# Altium footprint library Linux-Capable-Business-Card.PcbLib: 18 footprints (part 1 of 2)
Each footprint in its own frame and in the unit in brackets; x right, y up, seen from the top. Pads: shape width x height; smd on the part's side, far side on the other; paste and mask are expansions set on the pad; w line width, h text height; cw(c..) or ccw(c..) is an arc to the next point about the centre after c.
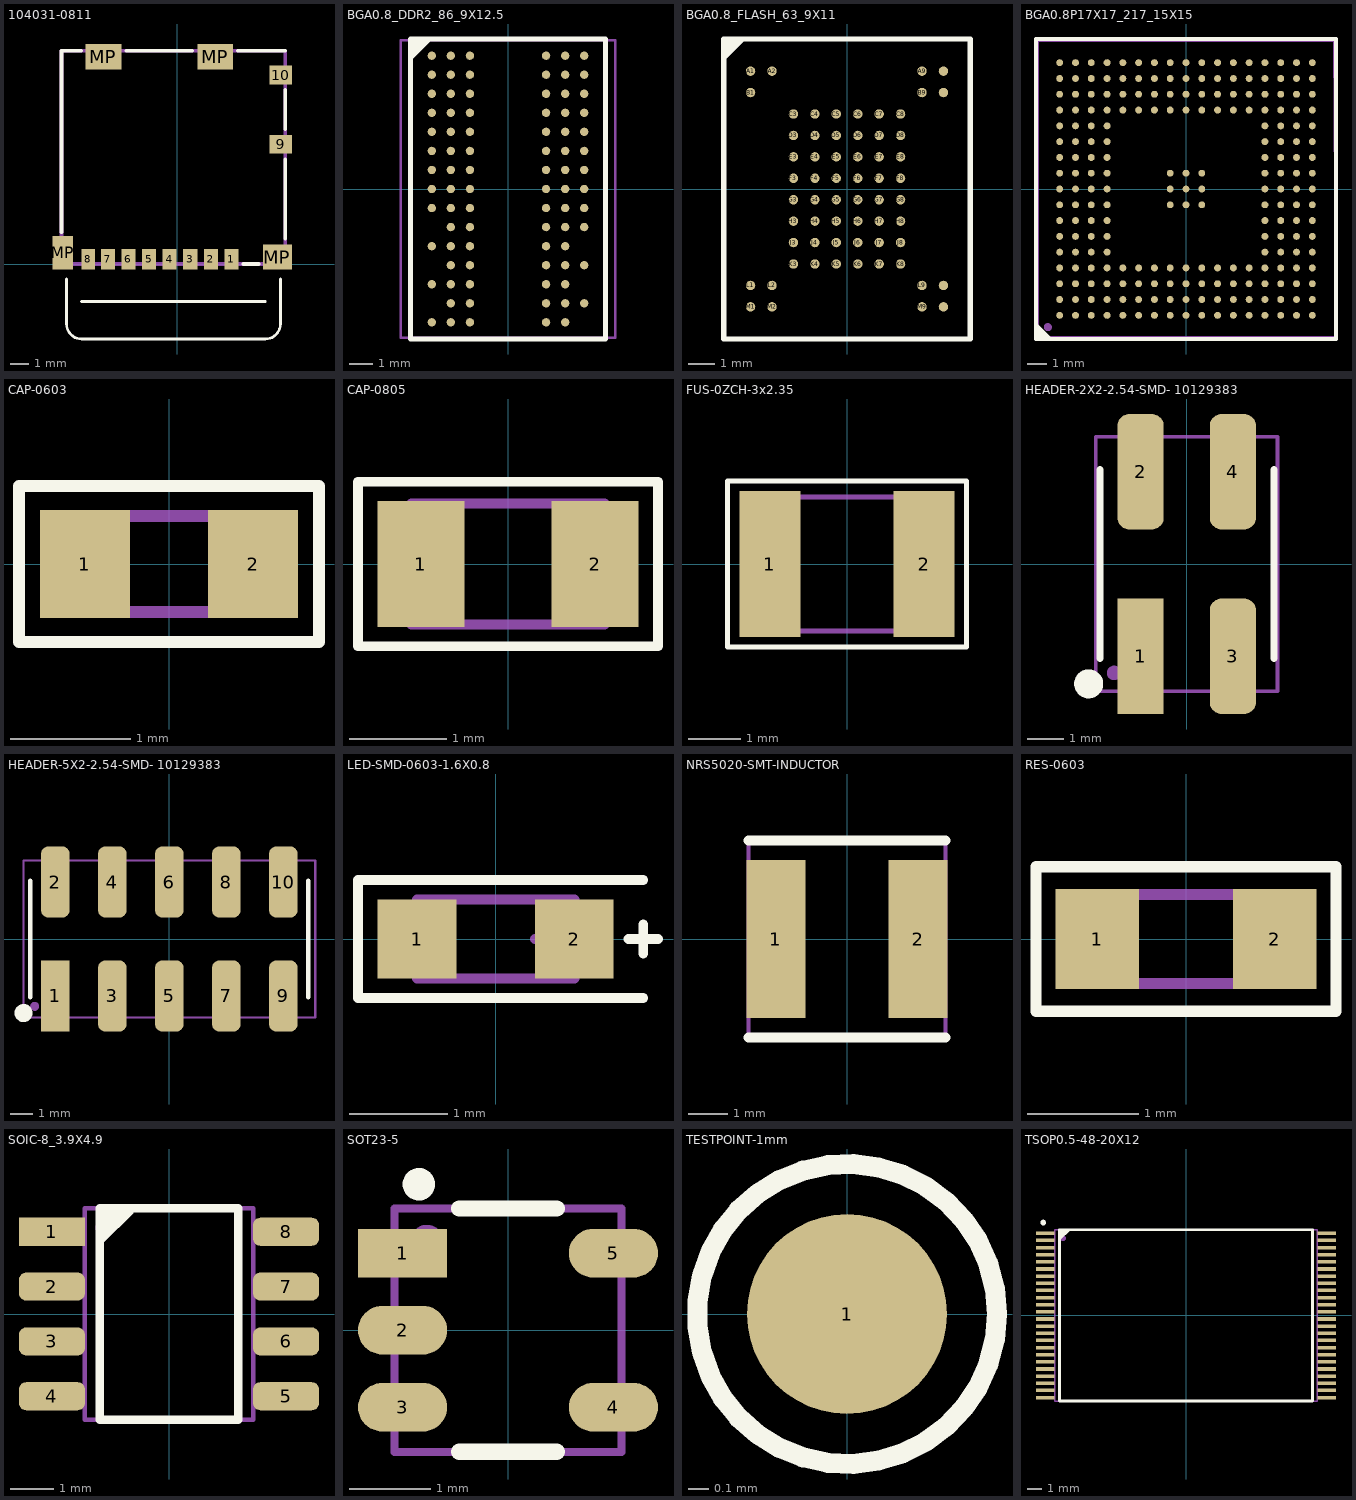
[diagram p0: the footprints below, top view; thin cyan lines are the x and y axes]

## 104031-0811 [mm] "Memory Card Connectors MICRO SD PUSH-PULL SMT 1.42MM HEIGHT"
height 1.42
pads (14):
  rect 0.75x1.1 smd: 1(2.905,0.25) 2(1.805,0.25) 3(0.705,0.25) 4(-0.395,0.25) 5(-1.495,0.25) 6(-2.595,0.25) 7(-3.695,0.25)
  rect 0.7x1.1 smd: 8(-4.745,0.25)
  rect 1.2x1 smd: 9(5.54,6.4) 10(5.54,10.1)
  rect 1.1x1.8 smd: MP(-6.1,0.6)
  rect 1.9x1.35 smd: MP(-3.93,11.075) MP(2.04,11.075)
  rect 1.55x1.35 smd: MP(5.365,0.375)
Top Overlay:
  lines w0.15: -5.9,-0.8 -5.9,-3.2 ccw(c-5.1,-3.2) -5.1,-4 4.719,-4 ccw(c4.719,-3.2) 5.519,-3.2 5.519,-0.8 ; -5.109,-2 4.709,-2
  lines w0.2: -6.175,1.721 -6.175,11.4 -5.114,11.4 ; -2.7,11.4 0.8,11.4 ; 3.255,11.4 5.775,11.4 ; 3.539,0 4.36,0 ; 5.775,1.367 5.775,5.601 ; 5.775,7.216 5.775,9.297
Top Assembly:
  lines w0.2: -6.175,0 -6.175,11.4 5.775,11.4 5.775,0 -6.175,0
  text ".Designator" at -2.5,5.667 h0.5
3D body "104031-0811.stp": height 1.44, standoff -0.01, extent -6.205,0 5.745,11.4

## BGA0.8_DDR2_86_9X12.5 [mm]
height 1.2
pads (84):
  round 0.35 smd: A1(-3.2,5.6) A2(-2.4,5.6) A3(-1.6,5.6) A7(1.6,5.6) A8(2.4,5.6) A9(3.2,5.6) B1(-3.2,4.8) B2(-2.4,4.8) B3(-1.6,4.8) B7(1.6,4.8) B8(2.4,4.8) B9(3.2,4.8) C1(-3.2,4) C2(-2.4,4) C3(-1.6,4) C7(1.6,4) C8(2.4,4) C9(3.2,4) D1(-3.2,3.2) D2(-2.4,3.2) D3(-1.6,3.2) D7(1.6,3.2) D8(2.4,3.2) D9(3.2,3.2) E1(-3.2,2.4) E2(-2.4,2.4) E3(-1.6,2.4) E7(1.6,2.4) E8(2.4,2.4) E9(3.2,2.4) F1(-3.2,1.6) F2(-2.4,1.6) F3(-1.6,1.6) F7(1.6,1.6) F8(2.4,1.6) F9(3.2,1.6) G1(-3.2,0.8) G2(-2.4,0.8) G3(-1.6,0.8) G7(1.6,0.8) G8(2.4,0.8) G9(3.2,0.8) H1(-3.2,0) H2(-2.4,0) H3(-1.6,0) H7(1.6,0) H8(2.4,0) H9(3.2,0) J1(-3.2,-0.8) J2(-2.4,-0.8) J3(-1.6,-0.8) J7(1.6,-0.8) J8(2.4,-0.8) J9(3.2,-0.8) K2(-2.4,-1.6) K3(-1.6,-1.6) K7(1.6,-1.6) K8(2.4,-1.6) K9(3.2,-1.6) L1(-3.2,-2.4) L2(-2.4,-2.4) L3(-1.6,-2.4) L7(1.6,-2.4) L8(2.4,-2.4) M2(-2.4,-3.2) M3(-1.6,-3.2) M7(1.6,-3.2) M8(2.4,-3.2) M9(3.2,-3.2) N1(-3.2,-4) N2(-2.4,-4) N3(-1.6,-4) N7(1.6,-4) N8(2.4,-4) P2(-2.4,-4.8) P3(-1.6,-4.8) P7(1.6,-4.8) P8(2.4,-4.8) P9(3.2,-4.8) R1(-3.2,-5.6) R2(-2.4,-5.6) R3(-1.6,-5.6) R7(1.6,-5.6) R8(2.4,-5.6)
Top Overlay:
  region: -3.3,6.3 -4.1,5.5 -4.1,6.3
  lines w0.2: -4.1,-6.3 4.1,-6.3 ; -4.1,-6.25 -4.1,5.5 ; -3.2,6.3 -4.1,6.3 ; 4.1,-6.25 4.1,6.25 ; 4.1,6.3 -3.3,6.3 ; -4.1,5.5 -3.3,6.3 ; -4.1,5.5 -4.1,6.3 ; -4.1,6.3 -3.3,6.3
Top Assembly:
  circle w0.2: c-4,5.8 r0.1
  lines w0.1: -4.5,-6.25 4.5,-6.25 4.5,6.25 -4.5,6.25 -4.5,-6.25
  text ".Designator" at -2.5,-0.133 h0.5
3D body "MT47H128M16RT-25E_C.stp": height 1.2, standoff 0, extent -4.5,-6.25 4.5,6.25

## BGA0.8_FLASH_63_9X11 [mm]
pads (63):
  round 0.35 smd: A1(-3.6,4.4) A2(-2.8,4.4) A9(2.8,4.4) A10(3.6,4.4) B1(-3.6,3.6) B9(2.8,3.6) B10(3.6,3.6) C3(-2,2.8) C4(-1.2,2.8) C5(-0.4,2.8) C6(0.4,2.8) C7(1.2,2.8) C8(2,2.8) D3(-2,2) D4(-1.2,2) D5(-0.4,2) D6(0.4,2) D7(1.2,2) D8(2,2) E3(-2,1.2) E4(-1.2,1.2) E5(-0.4,1.2) E6(0.4,1.2) E7(1.2,1.2) E8(2,1.2) F3(-2,0.4) F4(-1.2,0.4) F5(-0.4,0.4) F6(0.4,0.4) F7(1.2,0.4) F8(2,0.4) G3(-2,-0.4) G4(-1.2,-0.4) G5(-0.4,-0.4) G6(0.4,-0.4) G7(1.2,-0.4) G8(2,-0.4) H3(-2,-1.2) H4(-1.2,-1.2) H5(-0.4,-1.2) H6(0.4,-1.2) H7(1.2,-1.2) H8(2,-1.2) J3(-2,-2) J4(-1.2,-2) J5(-0.4,-2) J6(0.4,-2) J7(1.2,-2) J8(2,-2) K3(-2,-2.8) K4(-1.2,-2.8) K5(-0.4,-2.8) K6(0.4,-2.8) K7(1.2,-2.8) K8(2,-2.8) L1(-3.6,-3.6) L2(-2.8,-3.6) L9(2.8,-3.6) L10(3.6,-3.6) M1(-3.6,-4.4) M2(-2.8,-4.4) M9(2.8,-4.4) M10(3.6,-4.4)
Top Overlay:
  region: -3.9,5.6 -4.6,4.9 -4.6,5.6
  lines w0.2: -4.6,5.1 -4.6,-5.6 4.6,-5.6 4.6,5.6 -4.1,5.6 ; -4.6,5.6 -4.6,5.6 ; -4.6,5.6 -3.9,5.6 -4.6,4.9 -4.6,5.6
3D body "MT29F1G08ABAEAH4_E_TR.stp": height 1, standoff 0, extent -4.5,-5.5 4.5,5.5

## BGA0.8P17X17_217_15X15 [mm]
height 1.4
pads (217):
  round 0.35 smd mask+0.06: A1(-6.4,-6.4) A2(-6.4,-5.6) A3(-6.4,-4.8) A4(-6.4,-4) A5(-6.4,-3.2) A6(-6.4,-2.4) A7(-6.4,-1.6) A8(-6.4,-0.8) A9(-6.4,0) A10(-6.4,0.8) A11(-6.4,1.6) A12(-6.4,2.4) A13(-6.4,3.2) A14(-6.4,4) A15(-6.4,4.8) A16(-6.4,5.6) A17(-6.4,6.4) B1(-5.6,-6.4) B2(-5.6,-5.6) B3(-5.6,-4.8) B4(-5.6,-4) B5(-5.6,-3.2) B6(-5.6,-2.4) B7(-5.6,-1.6) B8(-5.6,-0.8) B9(-5.6,0) B10(-5.6,0.8) B11(-5.6,1.6) B12(-5.6,2.4) B13(-5.6,3.2) B14(-5.6,4) B15(-5.6,4.8) B16(-5.6,5.6) B17(-5.6,6.4) C1(-4.8,-6.4) C2(-4.8,-5.6) C3(-4.8,-4.8) C4(-4.8,-4) C5(-4.8,-3.2) C6(-4.8,-2.4) C7(-4.8,-1.6) C8(-4.8,-0.8) C9(-4.8,0) C10(-4.8,0.8) C11(-4.8,1.6) C12(-4.8,2.4) C13(-4.8,3.2) C14(-4.8,4) C15(-4.8,4.8) C16(-4.8,5.6) C17(-4.8,6.4) D1(-4,-6.4) D2(-4,-5.6) D3(-4,-4.8) D4(-4,-4) D5(-4,-3.2) D6(-4,-2.4) D7(-4,-1.6) D8(-4,-0.8) D9(-4,0) D10(-4,0.8) D11(-4,1.6) D12(-4,2.4) D13(-4,3.2) D14(-4,4) D15(-4,4.8) D16(-4,5.6) D17(-4,6.4) E1(-3.2,-6.4) E2(-3.2,-5.6) E3(-3.2,-4.8) E4(-3.2,-4) E14(-3.2,4) E15(-3.2,4.8) E16(-3.2,5.6) E17(-3.2,6.4) F1(-2.4,-6.4) F2(-2.4,-5.6) F3(-2.4,-4.8) F4(-2.4,-4) F14(-2.4,4) F15(-2.4,4.8) F16(-2.4,5.6) F17(-2.4,6.4) G1(-1.6,-6.4) G2(-1.6,-5.6) G3(-1.6,-4.8) G4(-1.6,-4) G14(-1.6,4) G15(-1.6,4.8) G16(-1.6,5.6) G17(-1.6,6.4) H1(-0.8,-6.4) H2(-0.8,-5.6) H3(-0.8,-4.8) H4(-0.8,-4) H8(-0.8,-0.8) H9(-0.8,0) H10(-0.8,0.8) H14(-0.8,4) H15(-0.8,4.8) H16(-0.8,5.6) H17(-0.8,6.4) J1(0,-6.4) J2(0,-5.6) J3(0,-4.8) J4(0,-4) J8(0,-0.8) J9(0,0) J10(0,0.8) J14(0,4) J15(0,4.8) J16(0,5.6) J17(0,6.4) K1(0.8,-6.4) K2(0.8,-5.6) K3(0.8,-4.8) K4(0.8,-4) K8(0.8,-0.8) K9(0.8,0) K10(0.8,0.8) K14(0.8,4) K15(0.8,4.8) K16(0.8,5.6) K17(0.8,6.4) L1(1.6,-6.4) L2(1.6,-5.6) L3(1.6,-4.8) L4(1.6,-4) L14(1.6,4) L15(1.6,4.8) L16(1.6,5.6) L17(1.6,6.4) M1(2.4,-6.4) M2(2.4,-5.6) M3(2.4,-4.8) M4(2.4,-4) M14(2.4,4) M15(2.4,4.8) M16(2.4,5.6) M17(2.4,6.4) N1(3.2,-6.4) N2(3.2,-5.6) N3(3.2,-4.8) N4(3.2,-4) N14(3.2,4) N15(3.2,4.8) N16(3.2,5.6) N17(3.2,6.4) P1(4,-6.4) P2(4,-5.6) P3(4,-4.8) P4(4,-4) P5(4,-3.2) P6(4,-2.4) P7(4,-1.6) P8(4,-0.8) P9(4,0) P10(4,0.8) P11(4,1.6) P12(4,2.4) P13(4,3.2) P14(4,4) P15(4,4.8) P16(4,5.6) P17(4,6.4) R1(4.8,-6.4) R2(4.8,-5.6) R3(4.8,-4.8) R4(4.8,-4) R5(4.8,-3.2) R6(4.8,-2.4) R7(4.8,-1.6) R8(4.8,-0.8) R9(4.8,0) R10(4.8,0.8) R11(4.8,1.6) R12(4.8,2.4) R13(4.8,3.2) R14(4.8,4) R15(4.8,4.8) R16(4.8,5.6) R17(4.8,6.4) T1(5.6,-6.4) T2(5.6,-5.6) T3(5.6,-4.8) T4(5.6,-4) T5(5.6,-3.2) T6(5.6,-2.4) T7(5.6,-1.6) T8(5.6,-0.8) T9(5.6,0) T10(5.6,0.8) T11(5.6,1.6) T12(5.6,2.4) T13(5.6,3.2) T14(5.6,4) T15(5.6,4.8) T16(5.6,5.6) T17(5.6,6.4) U1(6.4,-6.4) U2(6.4,-5.6) U3(6.4,-4.8) U4(6.4,-4) U5(6.4,-3.2) U6(6.4,-2.4) U7(6.4,-1.6) U8(6.4,-0.8) U9(6.4,0) U10(6.4,0.8) U11(6.4,1.6) U12(6.4,2.4) U13(6.4,3.2) U14(6.4,4) U15(6.4,4.8) U16(6.4,5.6) U17(6.4,6.4)
Top Overlay:
  region: -7.6,-6.9 -6.9,-7.6 -7.6,-7.6
  lines w0.2: -7.6,-6.9 -7.6,-7.6 -6.9,-7.6 ; -7.6,-6.9 -7.6,7.6 7.6,7.6 7.6,-7.6 -6.9,-7.6 ; -7.6,-6.9 -6.9,-7.6
Top Assembly:
  circle w0.2: c-7,-7 r0.1
  lines w0.1: -7.5,-7.5 -7.5,7.5 7.5,7.5 7.6,-7.5 -7.5,-7.5
  text ".Designator" at -2.5,-0.133 h0.5
3D body: height 0.86, standoff 0.12, extent -7.5,-7.5 7.5,7.5

## CAP-0603 [mm]
height 0.8
pads (2):
  rect 0.75x0.9 smd: 1(-0.7,0) 2(0.7,0)
Top Overlay:
  lines w0.1: -1.25,-0.65 -1.25,0.65 1.25,0.65 1.25,-0.65 -1.25,-0.65
Top Assembly:
  lines w0.1: -0.8,-0.4 0.8,-0.4 0.8,0.4 -0.8,0.4 -0.8,-0.4
  text ".Designator" at -2.5,-0.133 h0.5
3D body "C0603C104M4RAC.stp": height 0.95, standoff 0, extent -0.8,-0.4 0.8,0.4

## CAP-0805 [mm]
height 1.25
pads (2):
  rect 0.9x1.3 smd: 1(-0.9,0) 2(0.9,0)
Top Overlay:
  lines w0.1: -1.55,-0.85 1.55,-0.85 1.55,0.85 -1.55,0.85 -1.55,-0.85
Top Assembly:
  lines w0.1: -1,-0.625 1,-0.625 1,0.625 -1,0.625 -1,-0.625
  text ".Designator" at -2.5,-0.133 h0.5
3D body "885012107013.stp": height 1.35, standoff 0, extent -1,-0.625 1,0.625

## FUS-0ZCH-3x2.35 [mm]
height 0.75
pads (2):
  rect 1.18x2.81 smd: 1(-1.485,0) 2(1.485,0)
Top Overlay:
  lines w0.1: -2.3,-1.6 2.3,-1.6 2.3,1.6 -2.3,1.6 -2.3,-1.6
Top Assembly:
  lines w0.1: -1.608,-1.288 1.608,-1.288 1.608,1.288 -1.608,1.288 -1.608,-1.288
  text ".Designator" at -2.5,-0.133 h0.5
3D body "0ZCH0050FF2G.stp": height 0.75, standoff 0, extent -1.607,-1.288 1.607,1.288

## HEADER-2X2-2.54-SMD- 10129383 [mm]
pads (4):
  rect 1.27x3.18 smd: 1(-1.27,-2.54)
  rrect50% 1.27x3.18 smd: 2(-1.27,2.54) 3(1.27,-2.54) 4(1.27,2.54)
Top Overlay:
  circle w0.4: c-2.7,-3.3 r0.2
  lines w0.2: -2.39,-2.6 -2.39,2.6 ; 2.4,-2.6 2.4,2.6
Top Assembly:
  circle w0.2: c-2,-3 r0.1
  lines w0.1: -2.5,-3.5 2.5,-3.5 2.5,3.5 -2.5,3.5 -2.5,-3.5
  text ".Designator" at -2.5,-0.133 h0.5

## HEADER-5X2-2.54-SMD- 10129383 [mm]
pads (10):
  rect 1.27x3.18 smd: 1(-5.08,-2.54)
  rrect50% 1.27x3.18 smd: 2(-5.08,2.54) 3(-2.54,-2.54) 4(-2.54,2.54) 5(0,-2.54) 6(0,2.54) 7(2.54,-2.54) 8(2.54,2.54) 9(5.08,-2.54) 10(5.08,2.54)
Top Overlay:
  circle w0.4: c-6.5,-3.3 r0.2
  lines w0.2: -6.2,-2.6 -6.2,2.6 ; 6.2,-2.6 6.2,2.6
Top Assembly:
  circle w0.2: c-6,-3 r0.1
  lines w0.1: -6.5,-3.5 6.5,-3.5 6.5,3.5 -6.5,3.5 -6.5,-3.5
  text ".Designator" at -2.5,-0.133 h0.5

## LED-SMD-0603-1.6X0.8 [mm]
height 0.7
pads (2):
  rect 0.8x0.8 smd: 1(-0.8,0) 2(0.8,0)
Top Overlay:
  lines w0.1: 1.35,0 1.65,0 ; 1.5,-0.6 -1.4,-0.6 -1.4,0.6 1.5,0.6 ; 1.5,-0.15 1.5,0.15
Top Assembly:
  lines w0.1: 0.4,0 0.6,0 ; 0.5,-0.1 0.5,0.1 ; -0.8,-0.4 -0.8,0.4 0.8,0.4 0.8,-0.4 -0.8,-0.4
  text ".Designator" at -2.5,-0.133 h0.5
3D body "150060VS75000.stp": height 0.7, standoff 0, extent -0.83,-0.4 0.77,0.4

## NRS5020-SMT-INDUCTOR [mm]
height 2
pads (2):
  rect 1.5x4 smd: 1(-1.8,0) 2(1.8,0)
Top Overlay:
  lines w0.254: -2.5,-2.5 2.5,-2.5 ; -2.5,2.5 2.5,2.5
Top Assembly:
  lines w0.1: -2.5,-2.5 -2.5,2.5 2.5,2.5 2.5,-2.5 -2.5,-2.5
  text ".Designator" at -2.5,-0.133 h0.5
3D body: height 2, standoff 0, extent -2.5,-2.5 2.5,2.5
3D body: height 0.25, standoff 0, extent 0,0 0,0

## RES-0603 [mm]
height 0.45
pads (2):
  rect 0.75x0.9 smd: 1(-0.8,0) 2(0.8,0)
Top Overlay:
  lines w0.1: -1.35,-0.65 1.35,-0.65 1.35,0.65 -1.35,0.65 -1.35,-0.65
Top Assembly:
  lines w0.1: -0.8,-0.4 0.8,-0.4 0.8,0.4 -0.8,0.4 -0.8,-0.4
  text ".Designator" at -2.5,-0.133 h0.5
3D body "RT0603FRE07120KL.stp": height 0.55, standoff 0, extent -0.8,-0.4 0.8,0.4

## SOIC-8_3.9X4.9 [mm]
height 1.75
pads (8):
  rect 1.525x0.65 smd: 1(-2.712,1.905)
  rrect50% 1.525x0.65 smd: 2(-2.712,0.635) 3(-2.712,-0.635) 4(-2.712,-1.905) 5(2.712,-1.905) 6(2.712,-0.635) 7(2.712,0.635) 8(2.712,1.905)
Top Overlay:
  region: -0.9,2.4 -1.6,1.7 -1.6,2.45
  lines w0.2: -1.6,1.7 -0.9,2.4 ; -0.9,2.4 -0.9,2.4 ; -1.6,-2.45 1.6,-2.45 1.6,2.45 -1.6,2.45 -1.6,-2.45
Top Assembly:
  circle w0.2: c-1.5,2 r0.1
  lines w0.1: -1.95,-2.45 -1.95,2.45 1.95,2.45 1.95,-2.45 -1.95,-2.45
  text ".Designator" at -2.5,-0.133 h0.5
3D body "NE555DR.stp": height 1.75, standoff 0, extent -3,-2.45 3,2.45

## SOT23-5 [mm]
height 1.45
pads (5):
  rect 1.1x0.6 smd: 1(-1.3,0.95)
  oval 1.1x0.6 smd: 2(-1.3,0) 3(-1.3,-0.95) 4(1.3,-0.95) 5(1.3,0.95)
Top Overlay:
  circle w0.2: c-1.1,1.8 r0.1
  lines w0.2: -0.6,-1.5 0.6,-1.5 ; -0.6,1.5 0.6,1.5
Top Assembly:
  circle w0.2: c-1,1.1 r0.1
  lines w0.1: -1.4,-1.5 -1.4,1.5 1.4,1.5 1.4,-1.5 -1.4,-1.5
  text ".Designator" at -2.5,-0.133 h0.5
3D body "TPS78450QDBVRQ1.stp": height 1.45, standoff 0, extent -1.4,-1.45 1.4,1.45

## TESTPOINT-1mm [mm]
pads (1):
  round 1 smd: 1(0,0)
Top Overlay:
  circle w0.1: c0,0 r0.75

## TSOP0.5-48-20X12 [mm]
height 1.2
pads (48):
  rect 1.3x0.25 smd: 1(-9.85,5.75) 2(-9.85,5.25) 3(-9.85,4.75) 4(-9.85,4.25) 5(-9.85,3.75) 6(-9.85,3.25) 7(-9.85,2.75) 8(-9.85,2.25) 9(-9.85,1.75) 10(-9.85,1.25) 11(-9.85,0.75) 12(-9.85,0.25) 13(-9.85,-0.25) 14(-9.85,-0.75) 15(-9.85,-1.25) 16(-9.85,-1.75) 17(-9.85,-2.25) 18(-9.85,-2.75) 19(-9.85,-3.25) 20(-9.85,-3.75) 21(-9.85,-4.25) 22(-9.85,-4.75) 23(-9.85,-5.25) 24(-9.85,-5.75) 25(9.85,-5.75) 26(9.85,-5.25) 27(9.85,-4.75) 28(9.85,-4.25) 29(9.85,-3.75) 30(9.85,-3.25) 31(9.85,-2.75) 32(9.85,-2.25) 33(9.85,-1.75) 34(9.85,-1.25) 35(9.85,-0.75) 36(9.85,-0.25) 37(9.85,0.25) 38(9.85,0.75) 39(9.85,1.25) 40(9.85,1.75) 41(9.85,2.25) 42(9.85,2.75) 43(9.85,3.25) 44(9.85,3.75) 45(9.85,4.25) 46(9.85,4.75) 47(9.85,5.25) 48(9.85,5.75)
Top Overlay:
  circle w0.2: c-10,6.5 r0.1
  region: -8.2,6 -8.85,6 -8.85,5.35
  lines w0.2: -8.85,5.35 -8.85,6 -8.2,6 ; -8.85,5.35 -8.85,-6 8.85,-6 8.85,6 -8.2,6 ; -8.85,5.35 -8.2,6
Top Assembly:
  circle w0.2: c-8.6,5.4 r0.1
  lines w0.1: -9.2,-6 9.2,-6 9.2,6 -9.2,6 -9.2,-6
  text ".Designator" at -2.5,-0.133 h0.5
3D body "MT29F1G08ABAEAWP_E.stp": height 1.2, standoff 0, extent -10,-6 10,6